# EAGLE library part SAMTECJ-TAG (library mrone)
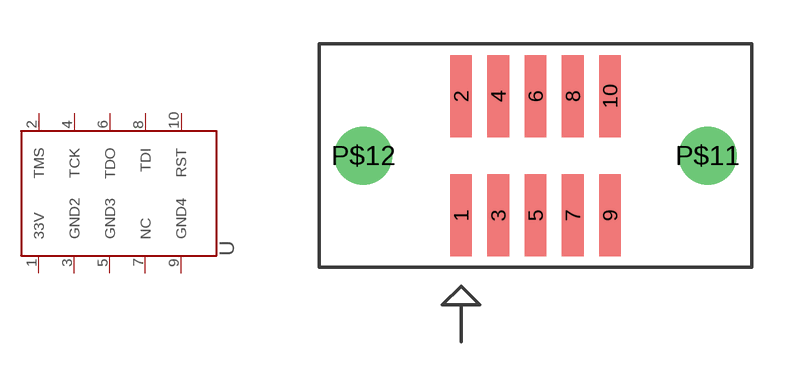
[diagram p10: symbol with the pads of 105-01-L-D-SM-LC; footprint 105-01-L-D-SM-LC]

Designator prefix -

## SAMTECJ-TAG  [105-01-L-D-SM-LC]
1  33V
2  TMS
3  GND2
4  TCK
5  GND3
6  TDO
7  NC
8  TDI
9  GND4
10  RST

## Footprint 105-01-L-D-SM-LC (pad centres in mm)
smd 0.737 x 2.794: 1 -2.54,-2.032; 2 -2.54,2.032; 3 -1.27,-2.032; 4 -1.27,2.032; 5 0,-2.032; 6 0,2.032; 7 1.27,-2.032; 8 1.27,2.032; 9 2.54,-2.032; 10 2.54,2.032
drill 1.321 round: P$11 5.867,0; P$12 -5.867,0